# EAGLE library part F3188 (library f3188)
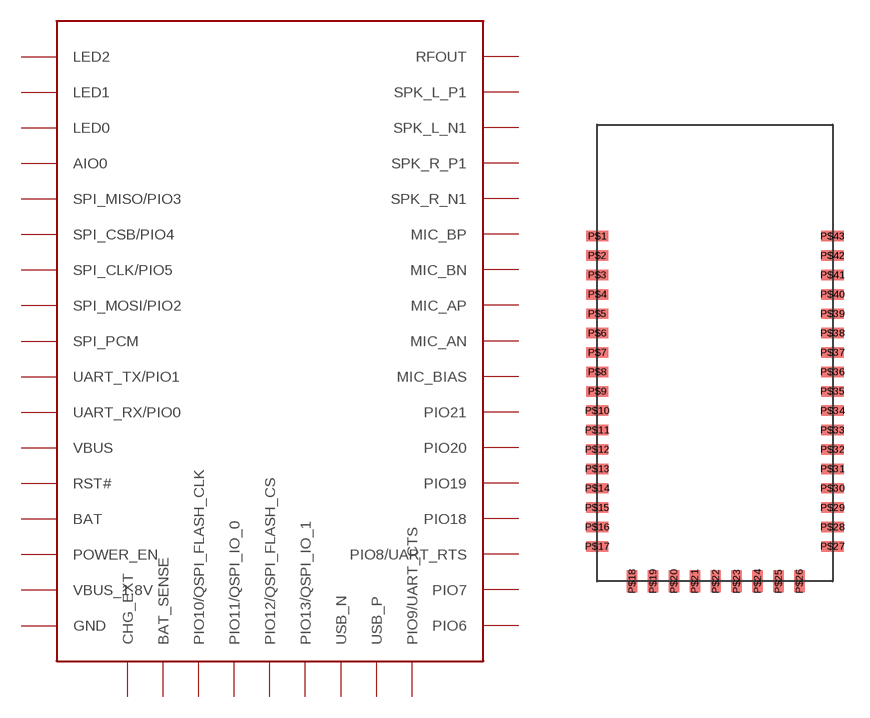
[diagram p0: symbol with the pads of F3188; footprint F3188]

Designator prefix -

## F3188  [F3188]
P$1  LED2
P$2  LED1
P$3  LED0
P$4  AIO0
P$5  SPI_MISO/PIO3
P$6  SPI_CSB/PIO4
P$7  SPI_CLK/PIO5
P$8  SPI_MOSI/PIO2
P$9  SPI_PCM
P$10  UART_TX/PIO1
P$11  UART_RX/PIO0
P$12  VBUS  pwr
P$13  RST#
P$14  BAT  pwr
P$15  POWER_EN
P$16  VBUS_1.8V  pwr
P$17  GND  pwr
P$18  CHG_EXT
P$19  BAT_SENSE
P$20  PIO10/QSPI_FLASH_CLK
P$21  PIO11/QSPI_IO_0
P$22  PIO12/QSPI_FLASH_CS
P$23  PIO13/QSPI_IO_1
P$24  USB_N
P$25  USB_P
P$26  PIO9/UART_CTS
P$27  PIO6
P$28  PIO7
P$29  PIO8/UART_RTS
P$30  PIO18
P$31  PIO19
P$32  PIO20
P$33  PIO21
P$34  MIC_BIAS
P$35  MIC_AN
P$36  MIC_AP
P$37  MIC_BN
P$38  MIC_BP
P$39  SPK_R_N1
P$40  SPK_R_P1
P$41  SPK_L_N1
P$42  SPK_L_P1
P$43  RFOUT

## Footprint F3188 (pad centres in mm)
smd 1.27 x 0.6: P$1 -6.5,7.9; P$2 -6.5,6.787; P$3 -6.5,5.675; P$4 -6.5,4.562; P$5 -6.5,3.45; P$6 -6.5,2.337; P$7 -6.5,1.225; P$8 -6.5,0.113; P$9 -6.5,-1; P$10 -6.5,-2.112; P$11 -6.5,-3.225; P$12 -6.5,-4.338; P$13 -6.5,-5.45; P$14 -6.5,-6.562; P$15 -6.5,-7.675; P$16 -6.5,-8.787; P$17 -6.5,-9.9; P$27 7,-9.9; P$28 7,-8.787; P$29 7,-7.675; P$30 7,-6.562; P$31 7,-5.45; P$32 7,-4.338; P$33 7,-3.225; P$34 7,-2.112; P$35 7,-1; P$36 7,0.113; P$37 7,1.225; P$38 7,2.337; P$39 7,3.45; P$40 7,4.562; P$41 7,5.675; P$42 7,6.787; P$43 7,7.9
smd 0.6 x 1.27: P$18 -4.5,-11.9; P$19 -3.3,-11.9; P$20 -2.1,-11.9; P$21 -0.9,-11.9; P$22 0.3,-11.9; P$23 1.5,-11.9; P$24 2.7,-11.9; P$25 3.9,-11.9; P$26 5.1,-11.9